# Altium schematic symbol library GPS.SchLib: 1 symbol
Pins are listed as number, name and electrical type; pins without a type are passive.

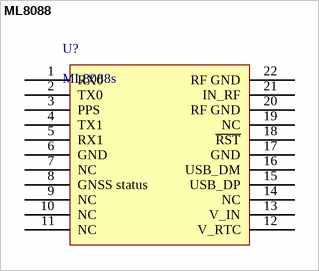
[diagram p0: symbol ML8088]

## ML8088
designator U?, comment ML8088s
GPS Receiver
footprint ML8088s (GPS, GLONASS, GALILEO Receiver)
pins: 1 RX0, 2 TX0, 3 PPS, 4 TX1, 5 RX1, 6 GND, 7 NC, 8 GNSS status, 9 NC, 10 NC, 11 NC, 12 V_RTC, 13 V_IN, 14 NC, 15 USB_DP, 16 USB_DM, 17 GND, 18 ~{RST}, 19 NC, 20 RF GND, 21 IN_RF, 22 RF GND